# EAGLE library part SPLIT-TM4C129ENCPDT (library Cynara-IntegratedCircuits)
Tiva TM4C129ENCPDT <http://www.ti.com/lit/ds/spms441b/spms441b.pdf> Microcontroller
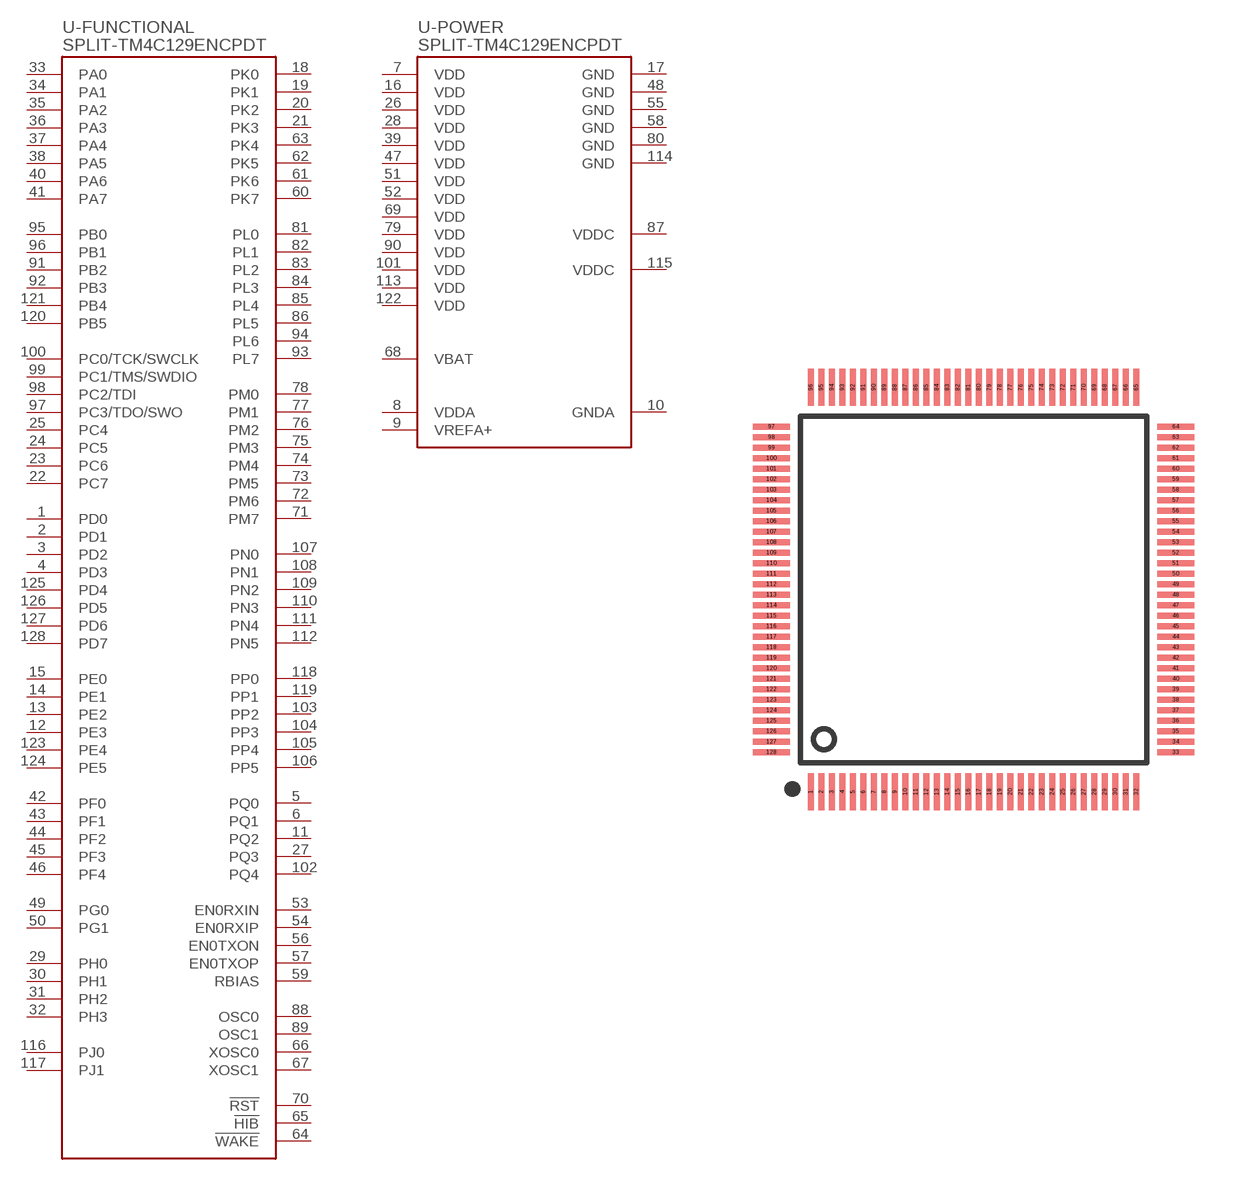
[diagram p2: symbol with the pads of S-PQFP-G128; footprint S-PQFP-G128]

Designator prefix U; gates -FUNCTIONAL=TM4C129EN-FUNCTIONAL -POWER=TM4C129EN-POWER

## SPLIT-TM4C129ENCPDT-TQFP128 (MANUFACTURER: Texas Instruments; MANUFACTURERPARTNO: TM4C129ENCPDT; VALUE: TM4C129EN)  [S-PQFP-G128]
1  -FUNCTIONAL:PD0
2  -FUNCTIONAL:PD1
3  -FUNCTIONAL:PD2
4  -FUNCTIONAL:PD3
5  -FUNCTIONAL:PQ0
6  -FUNCTIONAL:PQ1
7  -POWER:VDD  pwr
8  -POWER:VDDA  pwr
9  -POWER:VREFA+  pwr
10  -POWER:GNDA  pwr
11  -FUNCTIONAL:PQ2
12  -FUNCTIONAL:PE3
13  -FUNCTIONAL:PE2
14  -FUNCTIONAL:PE1
15  -FUNCTIONAL:PE0
16  -POWER:VDD  pwr
17  -POWER:GND  pwr
18  -FUNCTIONAL:PK0
19  -FUNCTIONAL:PK1
20  -FUNCTIONAL:PK2
21  -FUNCTIONAL:PK3
22  -FUNCTIONAL:PC7
23  -FUNCTIONAL:PC6
24  -FUNCTIONAL:PC5
25  -FUNCTIONAL:PC4
26  -POWER:VDD  pwr
27  -FUNCTIONAL:PQ3
28  -POWER:VDD  pwr
29  -FUNCTIONAL:PH0
30  -FUNCTIONAL:PH1
31  -FUNCTIONAL:PH2
32  -FUNCTIONAL:PH3
33  -FUNCTIONAL:PA0
34  -FUNCTIONAL:PA1
35  -FUNCTIONAL:PA2
36  -FUNCTIONAL:PA3
37  -FUNCTIONAL:PA4
38  -FUNCTIONAL:PA5
39  -POWER:VDD  pwr
40  -FUNCTIONAL:PA6
41  -FUNCTIONAL:PA7
42  -FUNCTIONAL:PF0
43  -FUNCTIONAL:PF1
44  -FUNCTIONAL:PF2
45  -FUNCTIONAL:PF3
46  -FUNCTIONAL:PF4
47  -POWER:VDD  pwr
48  -POWER:GND  pwr
49  -FUNCTIONAL:PG0
50  -FUNCTIONAL:PG1
51  -POWER:VDD  pwr
52  -POWER:VDD  pwr
53  -FUNCTIONAL:EN0RXIN
54  -FUNCTIONAL:EN0RXIP
55  -POWER:GND  pwr
56  -FUNCTIONAL:EN0TXON
57  -FUNCTIONAL:EN0TXOP
58  -POWER:GND  pwr
59  -FUNCTIONAL:RBIAS
60  -FUNCTIONAL:PK7
61  -FUNCTIONAL:PK6
62  -FUNCTIONAL:PK5
63  -FUNCTIONAL:PK4
64  -FUNCTIONAL:!WAKE
65  -FUNCTIONAL:!HIB
66  -FUNCTIONAL:XOSC0
67  -FUNCTIONAL:XOSC1
68  -POWER:VBAT  pwr
69  -POWER:VDD  pwr
70  -FUNCTIONAL:!RST
71  -FUNCTIONAL:PM7
72  -FUNCTIONAL:PM6
73  -FUNCTIONAL:PM5
74  -FUNCTIONAL:PM4
75  -FUNCTIONAL:PM3
76  -FUNCTIONAL:PM2
77  -FUNCTIONAL:PM1
78  -FUNCTIONAL:PM0
79  -POWER:VDD  pwr
80  -POWER:GND  pwr
81  -FUNCTIONAL:PL0
82  -FUNCTIONAL:PL1
83  -FUNCTIONAL:PL2
84  -FUNCTIONAL:PL3
85  -FUNCTIONAL:PL4
86  -FUNCTIONAL:PL5
87  -POWER:VDDC  pwr
88  -FUNCTIONAL:OSC0
89  -FUNCTIONAL:OSC1
90  -POWER:VDD  pwr
91  -FUNCTIONAL:PB2
92  -FUNCTIONAL:PB3
93  -FUNCTIONAL:PL7
94  -FUNCTIONAL:PL6
95  -FUNCTIONAL:PB0
96  -FUNCTIONAL:PB1
97  -FUNCTIONAL:PC3/TDO/SWO
98  -FUNCTIONAL:PC2/TDI
99  -FUNCTIONAL:PC1/TMS/SWDIO
100  -FUNCTIONAL:PC0/TCK/SWCLK
101  -POWER:VDD  pwr
102  -FUNCTIONAL:PQ4
103  -FUNCTIONAL:PP2
104  -FUNCTIONAL:PP3
105  -FUNCTIONAL:PP4
106  -FUNCTIONAL:PP5
107  -FUNCTIONAL:PN0
108  -FUNCTIONAL:PN1
109  -FUNCTIONAL:PN2
110  -FUNCTIONAL:PN3
111  -FUNCTIONAL:PN4
112  -FUNCTIONAL:PN5
113  -POWER:VDD  pwr
114  -POWER:GND  pwr
115  -POWER:VDDC  pwr
116  -FUNCTIONAL:PJ0
117  -FUNCTIONAL:PJ1
118  -FUNCTIONAL:PP0
119  -FUNCTIONAL:PP1
120  -FUNCTIONAL:PB5
121  -FUNCTIONAL:PB4
122  -POWER:VDD  pwr
123  -FUNCTIONAL:PE4
124  -FUNCTIONAL:PE5
125  -FUNCTIONAL:PD4
126  -FUNCTIONAL:PD5
127  -FUNCTIONAL:PD6
128  -FUNCTIONAL:PD7

## Footprint S-PQFP-G128 (pad centres in mm)
smd 0.24 x 1.4: 1 -6.2,-7.7; 2 -5.8,-7.7; 3 -5.4,-7.7; 4 -5,-7.7; 5 -4.6,-7.7; 6 -4.2,-7.7; 7 -3.8,-7.7; 8 -3.4,-7.7; 9 -3,-7.7; 10 -2.6,-7.7; 11 -2.2,-7.7; 12 -1.8,-7.7; 13 -1.4,-7.7; 14 -1,-7.7; 15 -0.6,-7.7; 16 -0.2,-7.7; 17 0.2,-7.7; 18 0.6,-7.7; 19 1,-7.7; 20 1.4,-7.7; 21 1.8,-7.7; 22 2.2,-7.7; 23 2.6,-7.7; 24 3,-7.7; 25 3.4,-7.7; 26 3.8,-7.7; 27 4.2,-7.7; 28 4.6,-7.7; 29 5,-7.7; 30 5.4,-7.7; 31 5.8,-7.7; 32 6.2,-7.7; 65 6.2,7.7; 66 5.8,7.7; 67 5.4,7.7; 68 5,7.7; 69 4.6,7.7; 70 4.2,7.7; 71 3.8,7.7; 72 3.4,7.7; 73 3,7.7; 74 2.6,7.7; 75 2.2,7.7; 76 1.8,7.7; 77 1.4,7.7; 78 1,7.7; 79 0.6,7.7; 80 0.2,7.7; 81 -0.2,7.7; 82 -0.6,7.7; 83 -1,7.7; 84 -1.4,7.7; 85 -1.8,7.7; 86 -2.2,7.7; 87 -2.6,7.7; 88 -3,7.7; 89 -3.4,7.7; 90 -3.8,7.7; 91 -4.2,7.7; 92 -4.6,7.7; 93 -5,7.7; 94 -5.4,7.7; 95 -5.8,7.7; 96 -6.2,7.7
smd 1.4 x 0.24: 33 7.7,-6.2; 34 7.7,-5.8; 35 7.7,-5.4; 36 7.7,-5; 37 7.7,-4.6; 38 7.7,-4.2; 39 7.7,-3.8; 40 7.7,-3.4; 41 7.7,-3; 42 7.7,-2.6; 43 7.7,-2.2; 44 7.7,-1.8; 45 7.7,-1.4; 46 7.7,-1; 47 7.7,-0.6; 48 7.7,-0.2; 49 7.7,0.2; 50 7.7,0.6; 51 7.7,1; 52 7.7,1.4; 53 7.7,1.8; 54 7.7,2.2; 55 7.7,2.6; 56 7.7,3; 57 7.7,3.4; 58 7.7,3.8; 59 7.7,4.2; 60 7.7,4.6; 61 7.7,5; 62 7.7,5.4; 63 7.7,5.8; 64 7.7,6.2; 97 -7.7,6.2; 98 -7.7,5.8; 99 -7.7,5.4; 100 -7.7,5; 101 -7.7,4.6; 102 -7.7,4.2; 103 -7.7,3.8; 104 -7.7,3.4; 105 -7.7,3; 106 -7.7,2.6; 107 -7.7,2.2; 108 -7.7,1.8; 109 -7.7,1.4; 110 -7.7,1; 111 -7.7,0.6; 112 -7.7,0.2; 113 -7.7,-0.2; 114 -7.7,-0.6; 115 -7.7,-1; 116 -7.7,-1.4; 117 -7.7,-1.8; 118 -7.7,-2.2; 119 -7.7,-2.6; 120 -7.7,-3; 121 -7.7,-3.4; 122 -7.7,-3.8; 123 -7.7,-4.2; 124 -7.7,-4.6; 125 -7.7,-5; 126 -7.7,-5.4; 127 -7.7,-5.8; 128 -7.7,-6.2